# Altium footprint library Fuente.PcbLib: 28 footprints (part 1 of 2)
Each footprint in its own frame and in the unit in brackets; x right, y up, seen from the top. Pads: shape width x height; smd on the part's side, far side on the other; paste and mask are expansions set on the pad; w line width, h text height; cw(c..) or ccw(c..) is an arc to the next point about the centre after c.
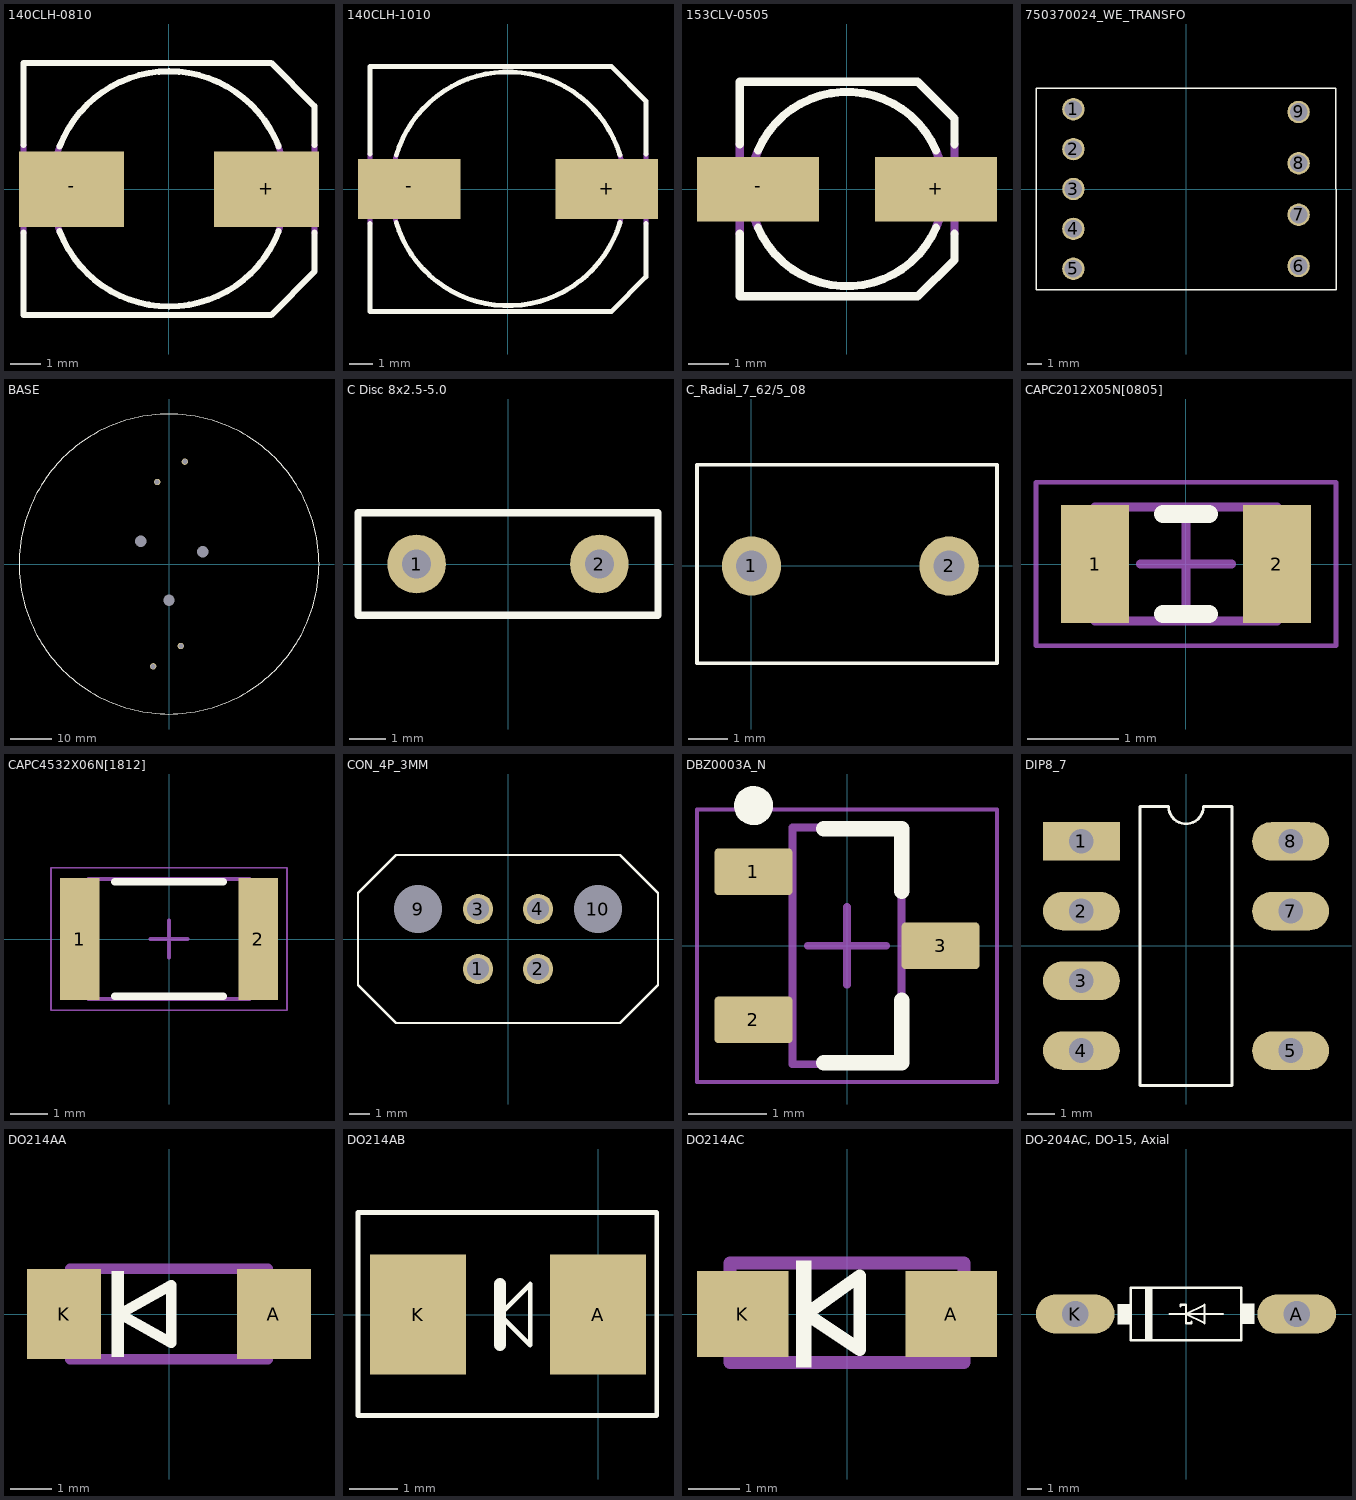
[diagram p0: the footprints below, top view; thin cyan lines are the x and y axes]

## 140CLH-0810 [mil]
pads (2):
  rect 138x99 smd: +(128,0) -(-127.95,0)
Top Overlay:
  lines w8: -190.95,-57.09 -190.94,-165.35 134,-165.35 191,-108.27 191,-57.09 ; -190.94,58 -190.95,166 134,166 191,109 191,58 ; -143.7,-55.12 ccw(c0.15,0.06) 144,-55.12 ; -143.7,56 cw(c0.15,0.82) 144,56
Mechanical 16:
  lines w8: -190.95,-57.09 -190.94,58 ; -143.7,-55.12 cw(c1.15,0.44) -143.7,56 ; 144,-55.12 ccw(c-0.85,0.44) 144,56 ; 191,-57.09 191,58
3D body "CAPAE-D8.0x10.2.stp": height 413.43, standoff 0, extent -193.85,-164.77 199.85,162

## 140CLH-1010 [mil]
pads (2):
  rect 170x99 smd: +(164,0) -(-163.39,0)
Top Overlay:
  lines w8: -228.35,-57.09 -228.35,-202.76 172,-202.76 229,-145.67 229,-57.09 ; -228.35,58 -228.35,203 172,203 229,146 229,58 ; -185.04,-55.12 ccw(c0.48,0.14) 186,-55.12 ; -185.04,56 cw(c0.48,0.74) 186,56
Mechanical 16:
  lines w8: -228.35,-57.09 -228.35,58 ; -185.04,-55.12 cw(c1.48,0.44) -185.04,56 ; 186,-55.12 ccw(c-0.52,0.44) 186,56 ; 229,-57.09 229,58
3D body "CAPAE-D10.0x10.2.stp": height 413.43, standoff 0, extent -230.42,-202.76 242.02,202.76

## 153CLV-0505 [mil]
pads (2):
  rect 119x63 smd: +(87,0) -(-86.61,0)
Top Overlay:
  lines w8: -104.33,-43.31 -104.33,-104.33 69,-104.33 105,-68.9 105,-43.31 ; -104.33,44 -104.33,105 69,105 105,69 105,44 ; -86.61,-37.4 ccw(c0.19,0.08) 87,-37.4 ; -86.61,38 cw(c0.19,0.52) 87,38
Mechanical 16:
  lines w8: -104.33,-43.31 -104.33,44 ; -86.61,-37.4 cw(c0.69,0.3) -86.61,38 ; 87,-37.4 ccw(c-0.31,0.3) 87,38 ; 105,-43.31 105,44
3D body "CAPAE-D5.0x5.4.stp": height 216.57, standoff 0, extent -123.95,-103.66 131.95,105

## 750370024_WE_TRANSFO [mm]
pads (9):
  round 1.524 hole 1.2: 1(-7.675,5.44) 2(-7.675,2.72) 3(-7.675,0) 4(-7.675,-2.72) 5(-7.675,-5.44) 6(7.675,-5.25) 7(7.675,-1.75) 8(7.675,1.75) 9(7.675,5.25)
Top Overlay:
  lines w0.1: -10.225,-6.86 -10.225,6.86 10.225,6.86 10.225,-6.86 -10.225,-6.86
3D body: height 10.8, standoff 0, extent -10.211,-6.858 10.236,6.858

## BASE [mm]
pads (7):
  round 1.524 hole 1.2: 4(-2.83,19.68) 5(3.8,24.57) 6(2.83,-19.68) 7(-3.8,-24.57)
  round 1.524 hole 2.75: LI(8.15,2.95) LO(0,-8.7) N(-6.75,5.45)
Top Overlay:
  circle w0.1: c0,0 r36
3D body "c-2213871-2-a-3d.stp": height 3.53, standoff -32.55, extent -57.06,-57.06 57.06,57.06

## C Disc 8x2.5-5.0 [mm]
pads (2):
  round 1.6 hole 0.8: 1(-2.5,0) 2(2.5,0)
Top Overlay:
  lines w0.2: -4.1,-1.4 -4.1,1.4 4.1,1.4 4.1,-1.4 -4.1,-1.4
3D body "C Disc 8x2.5-5.0.STEP": height 8.05, standoff -2.45, extent -3.993,-1.287 3.987,1.287

## C_Radial_7_62/5_08 [mil]
pads (2):
  round 60 hole 31.5: 1(0,0) 2(200,0)
Top Overlay:
  lines w3.94: -55.12,-98.42 248.43,-98.43 248.43,102.36 -55.12,102.36 -55.12,-98.42
3D body "C330C104KDR5TA.step": height 419.69, standoff -275.59, extent -51.57,-104.04 248.43,96.16

## CAPC2012X05N[0805] [mm]
pads (2):
  rect 0.75x1.3 smd: 1(-1,0) 2(1,0)
Top Overlay:
  lines w0.2: -0.25,-0.55 0.25,-0.55 ; -0.25,0.55 0.25,0.55
Mechanical 13:
  lines w0.1: -1,-0.625 1,-0.625 1,0.625 -1,0.625 -1,-0.625
Mechanical 15:
  lines w0.05: -1.65,-0.9 1.65,-0.9 1.65,0.9 -1.65,0.9 -1.65,-0.9
  lines w0.1: -0.5,0 0.5,0 ; 0,-0.5 0,0.5
3D body: height 0.5, standoff 0, extent 0.65,-0.625 1,0.625
3D body: height 0.5, standoff 0, extent -1,-0.625 -0.65,0.625
3D body: height 0.5, standoff 0, extent -0.65,-0.625 0.65,0.625

## CAPC4532X06N[1812] [mm]
pads (2):
  rect 1.05x3.25 smd: 1(-2.375,0) 2(2.375,0)
Top Overlay:
  lines w0.2: -1.45,-1.525 1.45,-1.525 ; -1.45,1.525 1.45,1.525
Mechanical 13:
  lines w0.1: -2.15,-1.6 2.15,-1.6 2.15,1.6 -2.15,1.6 -2.15,-1.6
Mechanical 15:
  lines w0.05: -3.15,-1.9 3.15,-1.9 3.15,1.9 -3.15,1.9 -3.15,-1.9
  lines w0.1: -0.5,0 0.5,0 ; 0,-0.5 0,0.5
3D body: height 0.55, standoff 0, extent 1.65,-1.6 2.15,1.6
3D body: height 0.55, standoff 0, extent -2.15,-1.6 -1.65,1.6
3D body: height 0.55, standoff 0, extent -1.65,-1.6 1.65,1.6

## CON_4P_3MM [mm]
pads (6):
  round 1.524 hole 1.1: 1(-1.5,-1.5) 2(1.5,-1.5) 3(-1.5,1.5) 4(1.5,1.5)
  round 1.524 hole 2.4 unplated: 9(-4.5,1.5) 10(4.5,1.5)
Top Overlay:
  lines w0.1: 7.5,2.3 5.6,4.2 -5.6,4.2 -7.5,2.3 -7.5,1.5 -7.5,-1.5 -7.5,-2.3 -5.6,-4.2 5.6,-4.2 7.5,-2.3 7.5,-1.5 7.5,1.5 7.5,2.3 ; 7.5,2.3 7.5,2.3
3D body "447690402.stp": height 13.61, standoff -3.39, extent -6,-3.7 6,4.7

## DBZ0003A_N [mm]
pads (3):
  rrect17% 1x0.6 smd: 1(-1.2,0.95) 2(-1.2,-0.95) 3(1.2,0)
Top Overlay:
  circle w0.25: c-1.2,1.8 r0.125
  lines w0.2: -0.3,-1.5 0.7,-1.5 0.7,-0.7 ; -0.3,1.5 0.7,1.5 0.7,0.7
Mechanical 1:
  text ".Designator" at -0.508,-0.127 h0.35
Mechanical 13:
  lines w0.1: -0.7,-1.52 0.7,-1.52 0.7,1.52 -0.7,1.52 -0.7,-1.52
Mechanical 15:
  lines w0.05: -1.925,-1.75 1.925,-1.75 1.925,1.75 -1.925,1.75 -1.925,-1.75
  lines w0.1: -0.5,0 0.5,0 ; 0,-0.5 0,0.5
3D body "DBZ0003AakaMF03A.stp": height 0.96, standoff -0.02, extent -1.257,-1.461 1.257,1.46

## DIP8_7 [mm]
pads (7):
  rect 2.8x1.4 / inner rect 1.4x1.4 / far side rect 2.8x1.4 hole 0.9: 1(-3.81,3.81)
  oval 2.8x1.4 / inner round 1.4 / far side oval 2.8x1.4 hole 0.9: 2(-3.81,1.27) 3(-3.81,-1.27) 4(-3.81,-3.81) 5(3.81,-3.81) 7(3.81,1.27) 8(3.81,3.81)
Top Overlay:
  lines w0.1: -1.675,-5.08 1.675,-5.08 1.675,5.08 0.635,5.08 cw(c0,5.08) -0.635,5.08 -1.675,5.08 -1.675,-5.08

## DO214AA [mm]
pads (2):
  rect 1.8x2.2 smd: A(2.55,0) K(-2.55,0)
Top Overlay:
  rectangle: -1.4,-1.05 -1.1,1.05
  lines w0.254: -1.2,0 0.05,-0.7 0.05,0.7 -1.2,0
Mechanical 16:
  rectangle: 2.5,-0.7 2.75,0.65
  rectangle: -2.75,-0.7 -2.5,0.65
  lines w0.254: -2.4,-1.1 -2.4,1.1 2.4,1.1 2.4,-1.1 -2.4,-1.1
3D body "User Library-DO-214AA_SMB.step": height 2.2, standoff -0.05, extent -2.624,-1.85 2.675,1.85

## DO214AB [mm]
pads (2):
  rect 2x2.5 smd: A(0,0) K(-3.75,0)
Top Overlay:
  lines w0.102: -5,-2.1 -5,2.125 1.225,2.125 1.225,-2.1 -5,-2.1 ; -2.046,0 -1.411,0.635 -1.411,0 -1.411,-0.635 -2.046,0
  lines w0.25: -2.046,-0.635 -2.046,0 -2.046,0.635
3D body: height 0.3, standoff 0, extent -4.575,-1.125 -3.6,1.125
3D body: height 1.1, standoff 0.7, extent -4.575,-1.125 -4.15,1.125
3D body: height 1.1, standoff 0, extent -4.575,-1.125 -4.275,1.125
3D body: height 1.1, standoff 0, extent 0.5,-1.125 0.8,1.125
3D body: height 1.1, standoff 0.7, extent 0.375,-1.125 0.8,1.125
3D body: height 0.3, standoff 0, extent -0.175,-1.125 0.8,1.125
3D body: height 2.23, standoff 2.2, extent -3.512,-1.8 -3.05,1.825
3D body: height 2.2, standoff 0.5, extent -4.175,-1.95 0.4,2
3D body: height 0.5, standoff 0, extent -2.375,-1.95 -1.275,2
3D body: height 2, standoff 0.4, extent -4.175,-1.95 0.4,2

## DO214AC [mm]
pads (2):
  rect 1.8x1.7 smd: A(2.05,0) K(-2.05,0)
Top Overlay:
  rectangle: -1,-1.05 -0.7,1.05
  lines w0.254: -0.8,0 0.25,-0.7 0.25,0.75 -0.8,0
Mechanical 16:
  rectangle: 2.4,-0.7 2.65,0.65
  rectangle: -2.65,-0.7 -2.4,0.65
  lines w0.254: -2.3,-0.95 -2.3,1 2.3,1 2.3,-0.95 -2.3,-0.95
3D body "User Library-DO-214AC SMA.step": height 2.4, standoff 0, extent -2.6,-1.27 2.6,1.33

## DO-204AC, DO-15, Axial [mil]
pads (2):
  oval 213x106.5 hole 71: A(300,0) K(-300,0)
Top Overlay:
  rectangle: -110.63,-70.88 -90.63,70.85
  rectangle: 149.61,-27.56 185.61,28.44
  rectangle: -185.6,-28.44 -149.6,27.56
  lines w6: -45,0 0,0 ; -15,20 -15,25 0,25 0,0 ; 15,-20 15,-25 0,-25 0,0 ; 100,0 0,0 ; 0,0 50,25 50,-25 0,0 ; -149.61,-70.87 -149.61,70.87 149.61,70.87 149.61,-70.87 -149.61,-70.87
Mechanical 16:
  lines w58: -300,0 -230,0 ; 230,0 300,0
3D body: height 87.8, standoff 53.94, extent 144.69,-17.91 302.17,15.94
3D body: height 87.8, standoff 53.94, extent -299.21,-16.73 -141.73,17.12
3D body: height 141.73, standoff 0, extent -106.3,-74.76 -82.68,66.93
3D body: height 141.73, standoff 0, extent -145.68,-74.77 -106.31,66.93
3D body: height 141.73, standoff 0, extent -82.68,-74.8 153.55,66.93